# EAGLE library part HEADER_79P (library Public)
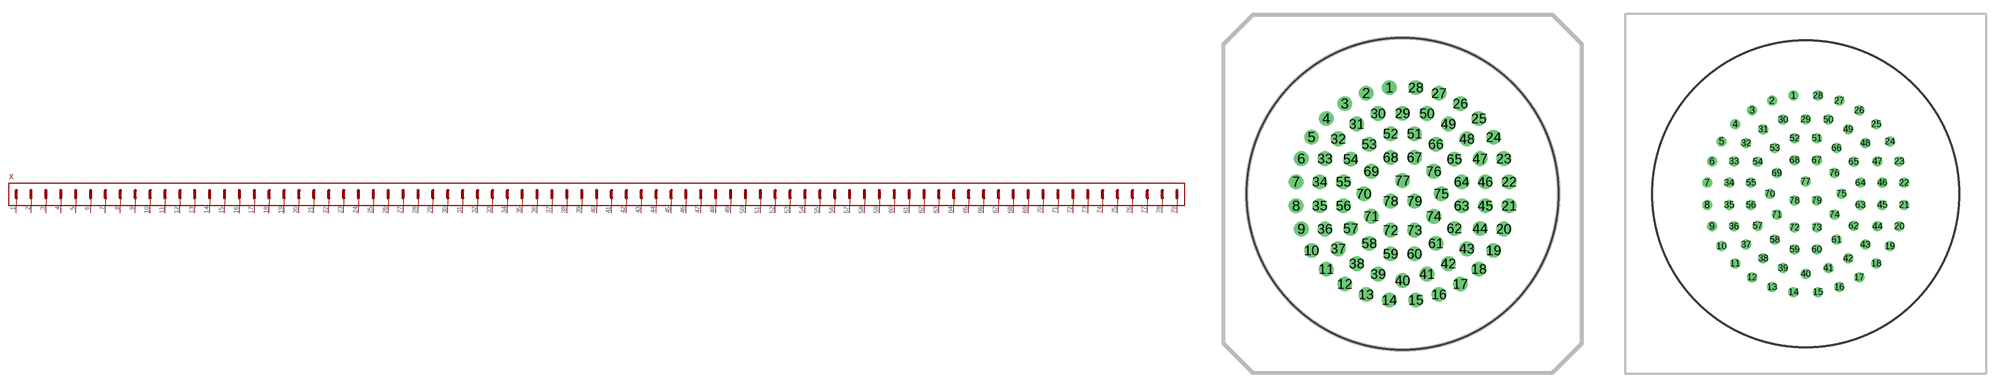
[diagram p177: symbol with the pads of VG96912-A20-35SNJ; footprints VG96912-A20-35SNJ, MS27466T21F35P]

Designator prefix X

## HEADER_79P(VG96912-A20-35SNJ)  [VG96912-A20-35SNJ]
1  PIN1
2  PIN2
3  PIN3
4  PIN4
5  PIN5
6  PIN6
7  PIN7
8  PIN8
9  PIN9
10  PIN10
11  PIN11
12  PIN12
13  PIN13
14  PIN14
15  PIN15
16  PIN16
17  PIN17
18  PIN18
19  PIN19
20  PIN20
21  PIN21
22  PIN22
23  PIN23
24  PIN24
25  PIN25
26  PIN26
27  PIN27
28  PIN28
29  PIN29
30  PIN30
31  PIN31
32  PIN32
33  PIN33
34  PIN34
35  PIN35
36  PIN36
37  PIN37
38  PIN38
39  PIN39
40  PIN40
41  PIN41
42  PIN42
43  PIN43
44  PIN44
45  PIN45
46  PIN46
47  PIN47
48  PIN48
49  PIN49
50  PIN50
51  PIN51
52  PIN52
53  PIN53
54  PIN54
55  PIN55
56  PIN56
57  PIN57
58  PIN58
59  PIN59
60  PIN60
61  PIN61
62  PIN62
63  PIN63
64  PIN64
65  PIN65
66  PIN66
67  PIN67
68  PIN68
69  PIN69
70  PIN70
71  PIN71
72  PIN72
73  PIN73
74  PIN74
75  PIN75
76  PIN76
77  PIN77
78  PIN78
79  PIN79

## HEADER_79P(MS27466T21F35P)  [MS27466T21F35P]
Pads as for VG96912-A20-35SNJ

## Footprint VG96912-A20-35SNJ (pad centres in mm)
drill 1: 1 -1.35,10.82; 2 -3.71,10.26; 3 -5.89,9.19; 4 -7.77,7.67; 5 -9.27,5.77; 6 -10.31,3.58; 7 -10.85,1.22; 8 -10.85,-1.22; 9 -10.31,-3.58; 10 -9.27,-5.77; 11 -7.77,-7.67; 12 -5.89,-9.19; 13 -3.71,-10.26; 14 -1.35,-10.82; 15 1.35,-10.82; 16 3.71,-10.26; 17 5.89,-9.19; 18 7.77,-7.67; 19 9.27,-5.77; 20 10.31,-3.58; 21 10.85,-1.22; 22 10.85,1.22; 23 10.31,3.58; 24 9.27,5.77; 25 7.77,7.67; 26 5.89,9.19; 27 3.71,10.25; 28 1.35,10.82; 29 0,8.2; 30 -2.49,8.18; 31 -4.67,7.11; 32 -6.55,5.59; 33 -7.9,3.58; 34 -8.43,1.22; 35 -8.43,-1.22; 36 -7.9,-3.58; 37 -6.55,-5.59; 38 -4.67,-7.11; 39 -2.49,-8.18; 40 0,-8.84; 41 2.49,-8.18; 42 4.67,-7.11; 43 6.55,-5.59; 44 7.9,-3.53; 45 8.43,-1.22; 46 8.43,1.22; 47 7.9,3.58; 48 6.55,5.59; 49 4.67,7.11; 50 2.49,8.18; 51 1.22,6.12; 52 -1.22,6.12; 53 -3.4,5.05; 54 -5.28,3.53; 55 -6.02,1.22; 56 -6.02,-1.22; 57 -5.28,-3.53; 58 -3.4,-5.05; 59 -1.22,-6.12; 60 1.22,-6.12; 61 3.4,-5.05; 62 5.28,-3.53; 63 6.02,-1.22; 64 6.02,1.22; 65 5.28,3.53; 66 3.4,5.05; 67 1.22,3.71; 68 -1.22,3.71; 69 -3.18,2.29; 70 -3.94,0; 71 -3.18,-2.29; 72 -1.22,-3.71; 73 1.22,-3.71; 74 3.18,-2.29; 75 3.94,0; 76 3.18,2.29; 77 0,1.35; 78 -1.22,-0.74; 79 1.22,-0.74

## Footprint MS27466T21F35P (pad centres in mm)
drill 0.6: 1 -1.346,10.82; 2 -3.708,10.262; 3 -5.893,9.195; 4 -7.772,7.671; 5 -9.271,5.766; 6 -10.312,3.581; 7 -10.846,1.219; 8 -10.846,-1.219; 9 -10.312,-3.581; 10 -9.271,-5.766; 11 -7.772,-7.671; 12 -5.893,-9.195; 13 -3.708,-10.262; 14 -1.346,-10.82; 15 1.346,-10.82; 16 3.708,-10.262; 17 5.893,-9.195; 18 7.772,-7.671; 19 9.271,-5.766; 20 10.312,-3.581; 21 10.846,-1.219; 22 10.846,1.219; 23 10.312,3.581; 24 9.271,5.766; 25 7.772,7.671; 26 5.893,9.195; 27 3.708,10.262; 28 1.346,10.82; 29 0,8.204; 30 -2.489,8.179; 31 -4.674,7.112; 32 -6.553,5.588; 33 -7.899,3.581; 34 -8.433,1.219; 35 -8.433,-1.219; 36 -7.899,-3.581; 37 -6.553,-5.588; 38 -4.674,-7.112; 39 -2.489,-8.179; 40 0,-8.814; 41 2.489,-8.179; 42 4.674,-7.112; 43 6.553,-5.588; 44 7.899,-3.581; 45 8.433,-1.219; 46 8.433,1.219; 47 7.899,3.581; 48 6.553,5.588; 49 4.674,7.112; 50 2.489,8.179; 51 1.219,6.121; 52 -1.219,6.121; 53 -3.404,5.055; 54 -5.283,3.531; 55 -6.02,1.219; 56 -6.02,-1.219; 57 -5.283,-3.531; 58 -3.404,-5.055; 59 -1.219,-6.121; 60 1.219,-6.121; 61 3.404,-5.055; 62 5.283,-3.531; 63 6.02,-1.219; 64 6.02,1.219; 65 5.283,3.531; 66 3.404,5.055; 67 1.219,3.708; 68 -1.219,3.708; 69 -3.175,2.286; 70 -3.937,0; 71 -3.175,-2.286; 72 -1.219,-3.708; 73 1.219,-3.708; 74 3.175,-2.286; 75 3.937,0; 76 3.175,2.286; 77 0,1.346; 78 -1.219,-0.737; 79 1.219,-0.737